# Altium footprint library EXP_HW_V3.PcbLib: 103 footprints (part 4 of 7)
Each footprint in its own frame and in the unit in brackets; x right, y up, seen from the top. Pads: shape width x height; smd on the part's side, far side on the other; paste and mask are expansions set on the pad; w line width, h text height; cw(c..) or ccw(c..) is an arc to the next point about the centre after c.
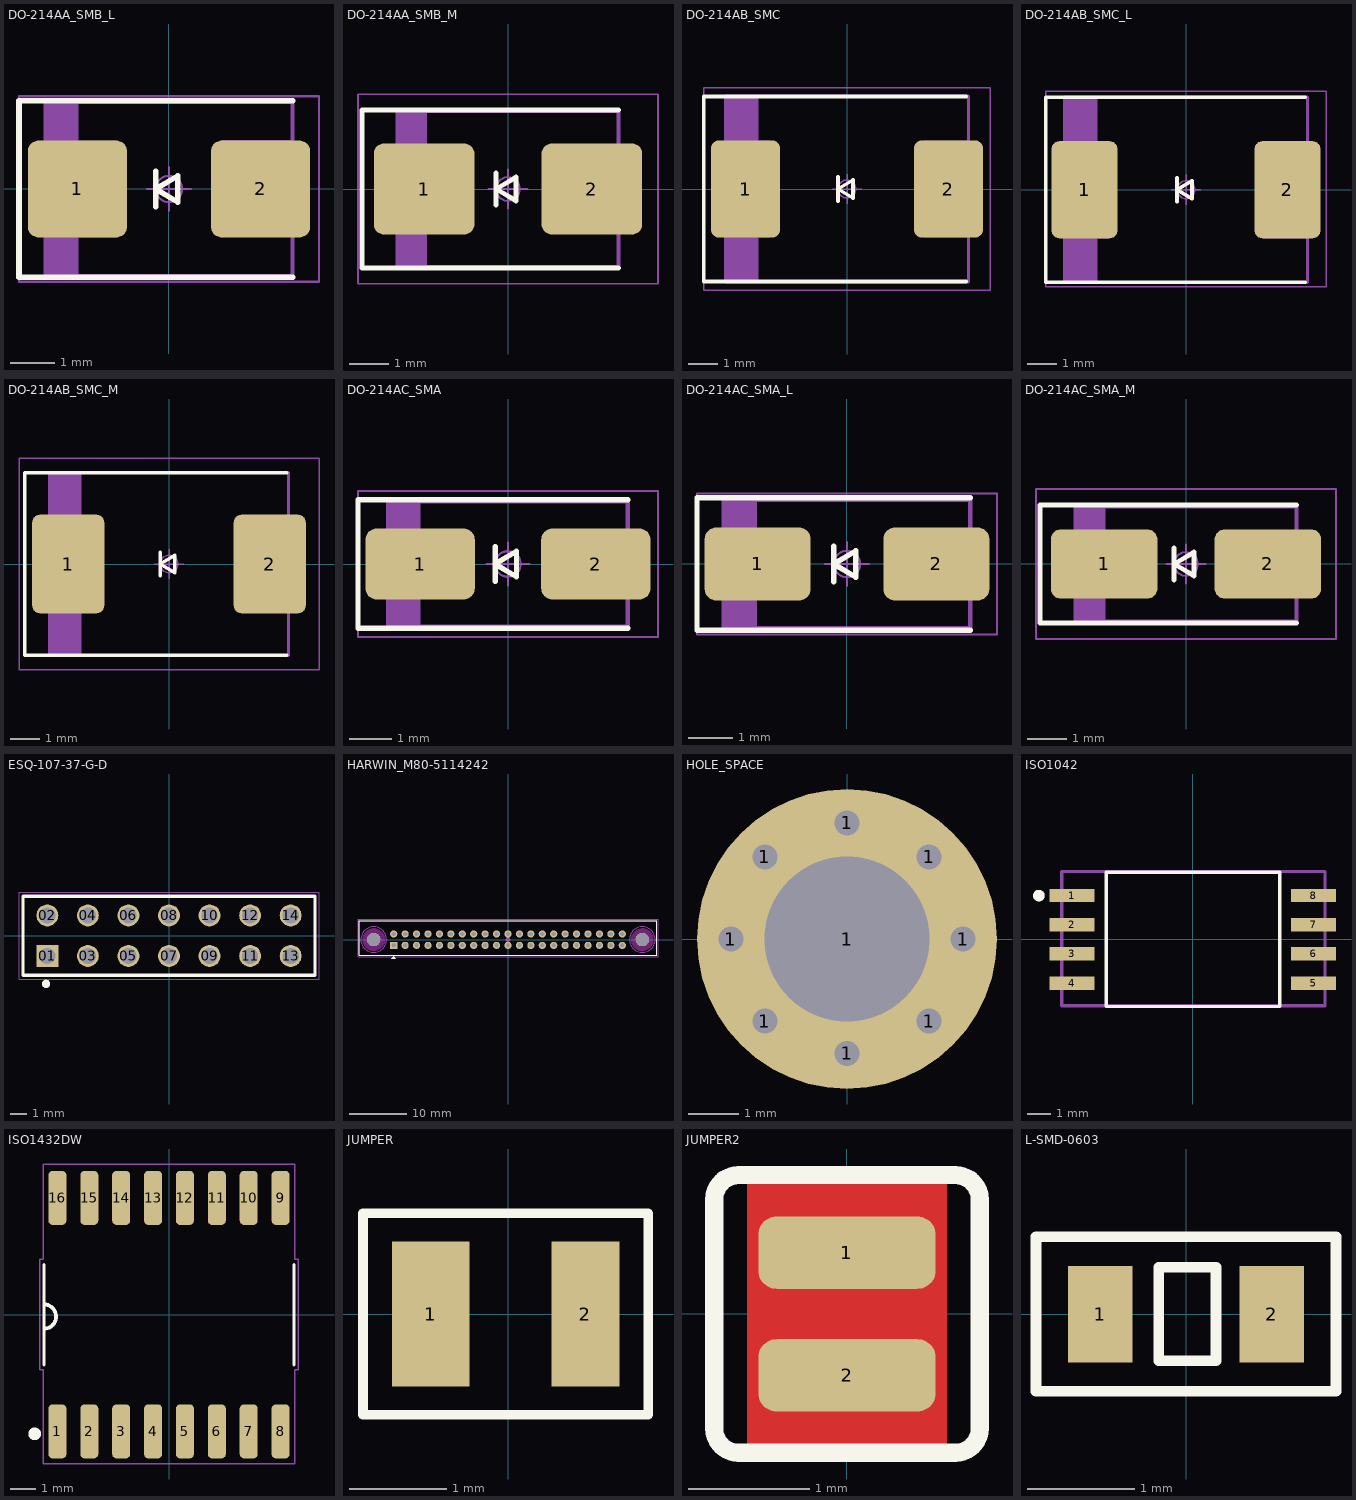
[diagram p3: the footprints below, top view; thin cyan lines are the x and y axes]

## DO-214AA_SMB_L [mm] "Molded Diode, 2-Leads, Body 5.40x3.63mm, IPC Medium Density"
height 2.47
pads (2):
  rrect22% 2.25x2.2 smd: 1(-2.075,0) 2(2.075,0)
Top Overlay:
  lines w0.125: -0.3,-0.4 -0.3,0.4 ; 2.8,-2 -3.4,-2 -3.4,2 2.8,2 ; -0.3,0 0.2,-0.3 0.2,0.3 -0.3,0
Top Assembly:
  rectangle: -2.8,-1.975 -2.047,1.975
  lines w0.1: -2.8,-1.975 2.8,-1.975 2.8,1.975 -2.8,1.975 -2.8,-1.975
  text "'.Designator'" at -3.952,-0.622 h1.5
Top Courtyard:
  lines w0.05: -3.4,-2.1 3.4,-2.1 3.4,2.1 -3.4,2.1 -3.4,-2.1
Top Component Outline:
  rectangle: -2.8,-1.1 -1.2,1.1
  region: 2.798,1.107 1.198,1.107 1.198,-1.093 2.798,-1.093
  lines w0.05: -2.8,-1.975 -2.8,1.975 2.8,1.975 2.8,-1.975 -2.8,-1.975
Top Component Center:
  circle w0.05: c0,0 r0.3
  lines w0.05: -0.5,0 0.5,0 ; 0,-0.5 0,0.5
3D body "5BT.STEP": height 2.44, standoff 0, extent -2.699,-1.81 2.699,1.81

## DO-214AA_SMB_M [mm] "Molded Diode, 2-Leads, Body 5.40x3.63mm, IPC Medium Density"
height 2.47
pads (2):
  rrect21% 2.55x2.3 smd: 1(-2.125,0) 2(2.125,0)
Top Overlay:
  lines w0.125: -0.3,-0.4 -0.3,0.4 ; 2.8,-2 -3.7,-2 -3.7,2 2.8,2 ; -0.3,0 0.2,0.3 0.2,-0.3 -0.3,0
Top Assembly:
  rectangle: -2.8,-1.975 -2.047,1.975
  lines w0.1: -2.8,-1.975 2.8,-1.975 2.8,1.975 -2.8,1.975 -2.8,-1.975
  text "'.Designator'" at -3.952,-0.622 h1.5
Top Courtyard:
  lines w0.05: -3.8,-2.4 3.8,-2.4 3.8,2.4 -3.8,2.4 -3.8,-2.4
Top Component Outline:
  rectangle: -2.8,-1.1 -1.2,1.1
  region: 2.798,1.107 1.198,1.107 1.198,-1.093 2.798,-1.093
  lines w0.05: -2.8,-1.975 -2.8,1.975 2.8,1.975 2.8,-1.975 -2.8,-1.975
Top Component Center:
  circle w0.05: c0,0 r0.3
  lines w0.05: -0.5,0 0.5,0 ; 0,-0.5 0,0.5
3D body "5BT.STEP": height 2.44, standoff 0, extent -2.699,-1.81 2.699,1.81

## DO-214AB_SMC [mm] "Molded Diode, 2-Leads, Body 7.94x5.91mm, IPC Medium Density"
height 2.62
pads (2):
  rrect21% 2.3x3.25 smd: 1(-3.4,0) 2(3.4,0)
Top Overlay:
  lines w0.12: 4,-3.1 -4.8,-3.1 -4.8,3.1 4,3.1
  lines w0.125: -0.3,-0.4 -0.3,0.4 ; -0.3,0 0.2,-0.3 0.2,0.3 -0.3,0
Top Assembly:
  rectangle: -4.065,-3.11 -2.972,3.11
  lines w0.1: -4.065,-3.11 4.065,-3.11 4.065,3.11 -4.065,3.11 -4.065,-3.11
  text "'.Designator'" at -3.952,-0.622 h1.5
Top Courtyard:
  lines w0.05: -4.8,-3.4 4.8,-3.4 4.8,3.4 -4.8,3.4 -4.8,-3.4
Top Component Outline:
  region: 4.075,1.625 2.555,1.625 2.555,-1.625 4.075,-1.625
  rectangle: -4.075,-1.625 -2.555,1.625
  lines w0.05: -4.065,-3.11 4.065,-3.11 4.065,3.11 -4.065,3.11 -4.065,-3.11
Top Component Center:
  circle w0.05: c0,0 r0.3
  lines w0.05: -0.5,0 0.5,0 ; 0,-0.5 0,0.5
3D body "9AT.STEP": height 2.62, standoff 0, extent -3.969,-2.959 3.969,2.959

## DO-214AB_SMC_L [mm] "Molded Diode, 2-Leads, Body 7.94x5.91mm, IPC Medium Density"
height 2.62
pads (2):
  rrect22% 2.2x3.25 smd: 1(-3.4,0) 2(3.4,0)
Top Overlay:
  lines w0.12: 4,-3.1 -4.7,-3.1 -4.7,3.1 4,3.1
  lines w0.125: -0.3,-0.4 -0.3,0.4 ; -0.3,0 0.2,0.3 0.2,-0.3 -0.3,0
Top Assembly:
  rectangle: -4.065,-3.11 -2.972,3.11
  lines w0.1: -4.065,-3.11 -4.065,3.11 4.065,3.11 4.065,-3.11 -4.065,-3.11
  text "'.Designator'" at -3.952,-0.622 h1.5
Top Courtyard:
  lines w0.05: -4.7,-3.25 4.7,-3.25 4.7,3.3 -4.7,3.3 -4.7,-3.25
Top Component Outline:
  rectangle: -4.075,-1.625 -2.555,1.625
  region: 4.075,1.625 2.555,1.625 2.555,-1.625 4.075,-1.625
  lines w0.05: -4.065,-3.11 -4.065,3.11 4.065,3.11 4.065,-3.11 -4.065,-3.11
Top Component Center:
  circle w0.05: c0,0 r0.3
  lines w0.05: -0.5,0 0.5,0 ; 0,-0.5 0,0.5
3D body "9AT.STEP": height 2.62, standoff 0, extent -3.969,-2.959 3.969,2.959

## DO-214AB_SMC_M [mm] "Molded Diode, 2-Leads, Body 7.94x5.91mm, IPC Medium Density"
height 2.62
pads (2):
  rrect20% 2.45x3.35 smd: 1(-3.425,0) 2(3.425,0)
Top Overlay:
  lines w0.125: -0.3,-0.4 -0.3,0.4 ; 4,-3.1 -4.9,-3.1 -4.9,3.1 4,3.1 ; -0.3,0 0.2,0.3 0.2,-0.3 -0.3,0
Top Assembly:
  rectangle: -4.065,-3.11 -2.972,3.11
  lines w0.1: -4.065,-3.11 -4.065,3.11 4.065,3.11 4.065,-3.11 -4.065,-3.11
  text "'.Designator'" at -3.952,-0.622 h1.5
Top Courtyard:
  lines w0.05: -5.1,-3.6 5.1,-3.6 5.1,3.6 -5.1,3.6 -5.1,-3.6
Top Component Outline:
  rectangle: -4.075,-1.625 -2.555,1.625
  region: 4.075,1.625 2.555,1.625 2.555,-1.625 4.075,-1.625
  lines w0.05: -4.065,-3.11 -4.065,3.11 4.065,3.11 4.065,-3.11 -4.065,-3.11
Top Component Center:
  circle w0.05: c0,0 r0.3
  lines w0.05: -0.5,0 0.5,0 ; 0,-0.5 0,0.5
3D body "9AT.STEP": height 2.62, standoff 0, extent -3.969,-2.959 3.969,2.959

## DO-214AC_SMA [mm] "Molded Diode, 2-Leads, Body 5.20x2.61mm, IPC Medium Density"
height 2.4
pads (2):
  rrect30% 2.55x1.65 smd: 1(-2.05,0) 2(2.05,0)
Top Overlay:
  lines w0.125: -0.3,-0.4 -0.3,0.4 ; 2.8,-1.5 -3.5,-1.5 -3.5,1.5 2.8,1.5 ; -0.3,0 0.2,-0.3 0.2,0.3 -0.3,0
Top Assembly:
  rectangle: -2.795,-1.46 -2.043,1.46
  lines w0.1: -2.795,-1.46 -2.795,1.46 2.795,1.46 2.795,-1.46 -2.795,-1.46
  text "'.Designator'" at -3.952,-0.622 h1.5
Top Courtyard:
  lines w0.05: -3.5,-1.7 -3.5,1.7 3.5,1.7 3.5,-1.7 -3.5,-1.7
Top Component Outline:
  rectangle: -2.8,-0.815 -1.28,0.815
  region: 2.8,0.815 1.28,0.815 1.28,-0.815 2.8,-0.815
  lines w0.05: -2.795,-1.46 -2.795,1.46 2.795,1.46 2.795,-1.46 -2.795,-1.46
Top Component Center:
  circle w0.05: c0,0 r0.3
  lines w0.05: -0.5,0 0.5,0 ; 0,-0.5 0,0.5
3D body "SMAJ12A-13-F.step": height 2.4, standoff 0, extent -2.598,-1.302 2.598,1.302

## DO-214AC_SMA_L [mm] "Molded Diode, 2-Leads, Body 5.20x2.61mm, IPC Medium Density"
height 2.4
pads (2):
  rrect30% 2.4x1.65 smd: 1(-2.025,0) 2(2.025,0)
Top Overlay:
  lines w0.12: 2.8,-1.5 -3.4,-1.5 -3.4,1.5 2.8,1.5
  lines w0.125: -0.3,-0.4 -0.3,0.4 ; -0.3,0 0.2,-0.3 0.2,0.3 -0.3,0
Top Assembly:
  rectangle: -2.795,-1.46 -2.043,1.46
  lines w0.1: -2.795,-1.46 -2.795,1.46 2.795,1.46 2.795,-1.46 -2.795,-1.46
  text "'.Designator'" at -3.952,-0.622 h1.5
Top Courtyard:
  lines w0.05: -3.4,-1.6 3.4,-1.6 3.4,1.6 -3.4,1.6 -3.4,-1.6
Top Component Outline:
  rectangle: -2.8,-0.815 -1.28,0.815
  region: 2.8,0.815 1.28,0.815 1.28,-0.815 2.8,-0.815
  lines w0.05: -2.795,-1.46 -2.795,1.46 2.795,1.46 2.795,-1.46 -2.795,-1.46
Top Component Center:
  circle w0.05: c0,0 r0.3
  lines w0.05: -0.5,0 0.5,0 ; 0,-0.5 0,0.5
3D body "SMAJ12A-13-F.step": height 2.4, standoff 0, extent -2.598,-1.302 2.598,1.302

## DO-214AC_SMA_M [mm] "Molded Diode, 2-Leads, Body 5.20x2.61mm, IPC Medium Density"
height 2.4
pads (2):
  rrect28% 2.7x1.75 smd: 1(-2.075,0) 2(2.075,0)
Top Overlay:
  lines w0.125: -0.3,-0.4 -0.3,0.4 ; 2.8,-1.5 -3.7,-1.5 -3.7,1.5 2.8,1.5 ; -0.3,0 0.2,0.3 0.2,-0.3 -0.3,0
Top Assembly:
  rectangle: -2.795,-1.46 -2.043,1.46
  lines w0.1: -2.795,-1.46 2.795,-1.46 2.795,1.46 -2.795,1.46 -2.795,-1.46
  text "'.Designator'" at -3.952,-0.622 h1.5
Top Courtyard:
  lines w0.05: -3.8,-1.9 -3.8,1.9 3.8,1.9 3.8,-1.9 -3.8,-1.9
Top Component Outline:
  region: 2.8,0.815 1.28,0.815 1.28,-0.815 2.8,-0.815
  rectangle: -2.8,-0.815 -1.28,0.815
  lines w0.05: -2.795,-1.46 2.795,-1.46 2.795,1.46 -2.795,1.46 -2.795,-1.46
Top Component Center:
  circle w0.05: c0,0 r0.3
  lines w0.05: -0.5,0 0.5,0 ; 0,-0.5 0,0.5
3D body "SMAJ12A-13-F.step": height 2.4, standoff 0, extent -2.598,-1.302 2.598,1.302

## ESQ-107-37-G-D [mm] "CONN SOCKET 14POS 0.1 GOLD PCB"
pads (14):
  rect 1.37x1.37 hole 1.02: 01(-7.62,-1.27)
  round 1.37 hole 1.02: 02(-7.62,1.27) 03(-5.08,-1.27) 04(-5.08,1.27) 05(-2.54,-1.27) 06(-2.54,1.27) 07(0,-1.27) 08(0,1.27) 09(2.54,-1.27) 10(2.54,1.27) 11(5.08,-1.27) 12(5.08,1.27) 13(7.62,-1.27) 14(7.62,1.27)
Top Overlay:
  circle w0.254: c-7.701,-3.012 r0.127
  lines w0.2: -9.145,-2.475 9.145,-2.475 9.145,2.475 -9.145,2.475 -9.145,-2.475
Top Assembly:
  circle w0.254: c-7.701,-3.012 r0.127
  lines w0.1: -9.145,-2.475 -9.145,2.475 ; -9.145,-2.475 9.145,-2.475 ; -9.145,-2.475 -9.145,2.475 ; -9.145,2.475 9.145,2.475 ; -9.145,2.475 9.145,2.475 ; 9.145,-2.475 9.145,2.475 ; 9.145,-2.475 9.145,2.475
  text "'.Designator'" at -11.017,-1.679 h1.9
Mechanical 15:
  lines w0.05: -9.395,-2.725 9.395,-2.725 9.395,2.725 -9.395,2.725 -9.395,-2.725
3D body "ESQ-107-37-G-D.step": height 11.13, standoff -2.21, extent -9.144,-2.54 9.144,2.54

## HARWIN_M80-5114242 [mm]
pads (44):
  rect 1.258x1.258 / inner round 1.258 / far side rect 1.258x1.258 hole 0.75: 1(-20,-1)
  round 1.258 hole 0.75: 2(-18,-1) 3(-16,-1) 4(-14,-1) 5(-12,-1) 6(-10,-1) 7(-8,-1) 8(-6,-1) 9(-4,-1) 10(-2,-1) 11(0,-1) 12(2,-1) 13(4,-1) 14(6,-1) 15(8,-1) 16(10,-1) 17(12,-1) 18(14,-1) 19(16,-1) 20(18,-1) 21(20,-1) 22(-20,1) 23(-18,1) 24(-16,1) 25(-14,1) 26(-12,1) 27(-10,1) 28(-8,1) 29(-6,1) 30(-4,1) 31(-2,1) 32(0,1) 33(2,1) 34(4,1) 35(6,1) 36(8,1) 37(10,1) 38(12,1) 39(14,1) 40(16,1) 41(18,1) 42(20,1)
  round 2.3 hole 2.3 unplated: ""(-23.5,0) ""(23.5,0)
Top Overlay:
  region: -20,-2.9 -20.4,-3.3 -19.6,-3.3
  lines w0.127: -26,-2.775 26,-2.775 26,3.275 -26,3.275 -26,-2.775
Keep-Out Layer:
  circle w2: c23.5,0 r1
  circle w2: c-23.5,0 r1
  circle w2: c-23.5,0 r1
  circle w2: c23.5,0 r1
Top Assembly:
  region: -20,-2.9 -20.4,-3.3 -19.6,-3.3
  lines w0.127: -26,-2.775 26,-2.775 26,3.275 -26,3.275 -26,-2.775
  text "'.Designator'" at -3.952,-0.622 h1.5
Top Courtyard:
  lines w0.05: -26.25,-3.025 26.25,-3.025 26.25,3.525 -26.25,3.525 -26.25,-3.025
Bottom Courtyard:
  circle w0.05: c23.5,0 r2.25
  circle w0.05: c-23.5,0 r2.25
Top Component Center:
  circle w0.05: c0,0 r0.3
  lines w0.05: -0.5,0 0.5,0 ; 0,-0.5 0,0.5
  lines w0.1: -0.5,0 0.5,0 ; 0,-0.5 0,0.5
3D body "m80-5114242.stp": height 5.69, standoff -5.91, extent -26,-2.775 26,3.275

## HOLE_SPACE [mm]
pads (9):
  round 1 hole 0.5: 1(-2.325,0) 1(-1.644,-1.644) 1(-1.644,1.644) 1(0,-2.286) 1(0,2.325) 1(1.644,-1.644) 1(1.644,1.644) 1(2.325,0)
  round 6 hole 3.3: 1(0,0)

## ISO1042 [mm] "IC TRANSCEIVER FULL 1/1 8SOIC"
pads (8):
  rect 1.954x0.582 smd paste+0: 1(-5.251,1.905) 2(-5.251,0.635) 3(-5.251,-0.635) 4(-5.251,-1.905) 5(5.251,-1.905) 6(5.251,-0.635) 7(5.251,0.635) 8(5.251,1.905)
Top Overlay:
  circle w0.25: c-6.7,1.9 r0.125
  lines w0.15: -3.774,-2.925 3.774,-2.925 3.774,2.925 -3.774,2.925 -3.774,-2.925
Top Assembly:
  circle w0.25: c-6.7,1.9 r0.125
  lines w0.15: -5.7,-2.9 -5.7,2.95 5.75,2.95 5.75,-2.9 -5.7,-2.9
  text "'.Designator'" at -11.584,-1.754 h2
3D body "DWV0008A.stp": height 2.67, standoff -0.03, extent -5.768,-2.925 5.768,2.925

## ISO1432DW [mm] "IC TRANSCEIVER FULL 1/1 16SOIC"
pads (16):
  rrect50% 0.72x2.16 smd: 1(-4.445,-4.65) 2(-3.175,-4.65) 3(-1.905,-4.65) 4(-0.635,-4.65) 5(0.635,-4.65) 6(1.905,-4.65) 7(3.175,-4.65) 8(4.445,-4.65) 9(4.445,4.65) 10(3.175,4.65) 11(1.905,4.65) 12(0.635,4.65) 13(-0.635,4.65) 14(-1.905,4.65) 15(-3.175,4.65) 16(-4.445,4.65)
Top Overlay:
  circle w0.254: c-5.35,-4.75 r0.125
  lines w0.12: -4.985,-2 -4.985,2 ; 4.985,-2 4.985,2
  lines w0.154: -4.913,-0.558 ccw(c-4.981,-0.078) -4.9,0.4
Top Assembly:
  lines w0.05: -5.15,-2.2 -5.005,-2.2 -5.005,-5.95 5.005,-5.95 5.005,-2.2 5.15,-2.2 5.15,2.2 5.005,2.2 5.005,6 -5.005,6 -5.005,2.2 -5.15,2.2 -5.15,-2.2
  text "'.Designator'" at -9.318,-1.479 h1.9
3D body "ISO1432DW.step": height 2.65, standoff 0, extent -5.15,-5.15 5.15,5.15

## JUMPER [mm]
pads (2):
  rect 0.8x1.5 smd: 1(-0.8,0)
  rect 0.7x1.5 smd: 2(0.8,0)
Top Overlay:
  lines w0.1: -1.499,-1.041 -1.499,1.041 1.448,1.041 1.448,-1.041 -1.499,-1.041

## JUMPER2 [mm]
pads (2):
  rrect50% 1.47x0.6 smd: 1(0,0.508) 2(0,-0.508)
Top Layer:
  pour cut-out: -0.825,1.15 -0.825,-1.15 0.825,-1.15 0.825,1.15
Top Overlay:
  lines w0.15: -1.1,-0.95 ccw(c-0.9,-0.95) -0.9,-1.15 0.9,-1.15 ccw(c0.9,-0.95) 1.1,-0.95 1.1,0.95 ccw(c0.9,0.95) 0.9,1.15 -0.9,1.15 ccw(c-0.9,0.95) -1.1,0.95 -1.1,-0.95

## L-SMD-0603 [mm]
pads (2):
  rect 0.6x0.9 smd: 1(-0.8,0) 2(0.8,0)
Top Overlay:
  lines w0.1: -1.397,-0.716 0.808,-0.716 1.397,-0.716 1.397,0.721 -1.397,0.721 -1.397,-0.716 ; -0.254,-0.432 -0.254,0.437 0.279,0.437 0.279,-0.432 -0.254,-0.432
3D body "L_0603.stp": height 0.81, standoff 0.01, extent -0.8,-0.4 0.8,0.4